# EAGLE library part DC-DC-50.80X25.40MM (library yb-library)
DC-DC Converter module, regulated, e.g. MORNSUN DC-DC URB_LD-30WR3 series, ARTESYN AEE 40W series
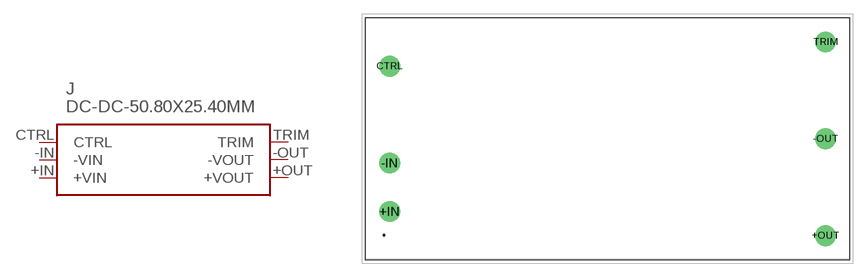
[diagram p21: symbol with the pads of DC-DC-50.80X25.40MM; footprint DC-DC-50.80X25.40MM]

Designator prefix J

## DC-DC-50.80X25.40MM  [DC-DC-50.80X25.40MM]
+IN  +VIN  pwr
+OUT  +VOUT  pwr
-IN  -VIN  pwr
-OUT  -VOUT  pwr
CTRL  CTRL  in
TRIM  TRIM  in

## Footprint DC-DC-50.80X25.40MM (pad centres in mm)
drill 1.2 pad 2.184: +IN -22.86,-7.62; +OUT 22.86,-10.16; -IN -22.86,-2.54; -OUT 22.86,0; CTRL -22.86,7.62; TRIM 22.86,10.16